# Altium schematic symbol library Murata 2220 X1-Y2 Capacitor.SchLib: 1 symbol
Pins are listed as number, name and electrical type; pins without a type are passive.

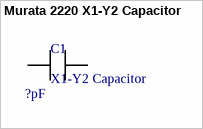
[diagram p0: symbol Murata 2220 X1-Y2 Capacitor]

## Murata 2220 X1-Y2 Capacitor
designator C1, comment X1-Y2 Capacitor  Capacitance: ?pF
footprint Murata 2220 X1-Y2 Capacitor (Footprint not found)
pins: 1, 2